# Altium footprint library USB307630A.PcbLib: 1 footprints
Each footprint in its own frame and in the unit in brackets; x right, y up, seen from the top. Pads: shape width x height; smd on the part's side, far side on the other; paste and mask are expansions set on the pad; w line width, h text height; cw(c..) or ccw(c..) is an arc to the next point about the centre after c.
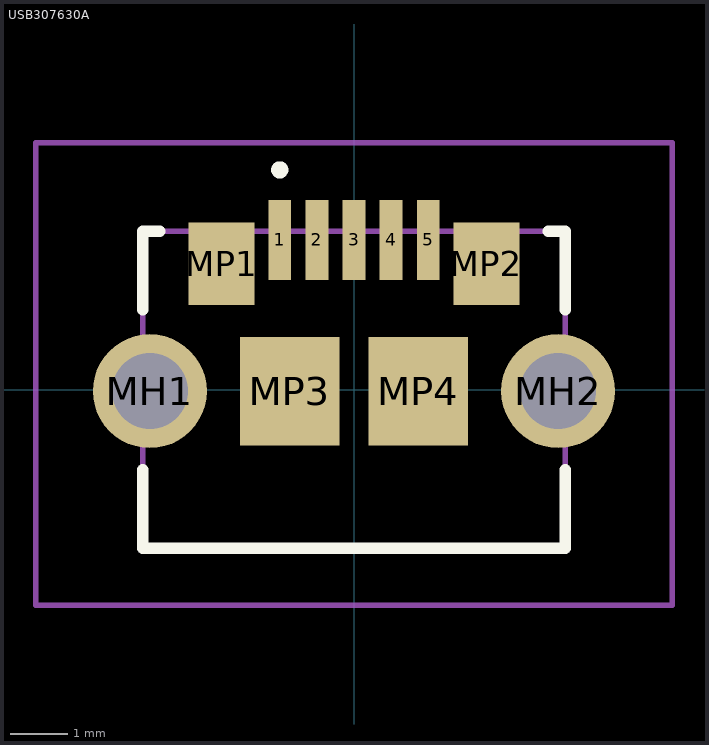
[diagram p0: the footprint, top view; thin cyan lines are the x and y axes]

## USB307630A [mm]
pads (11):
  rect 0.4x1.4 smd: 1(-1.3,2.625) 2(-0.65,2.625) 3(0,2.625) 4(0.65,2.625) 5(1.3,2.625)
  round 1.995 hole 1.33: MH1(-3.575,-0.025) MH2(3.575,-0.025)
  rect 1.15x1.45 smd: MP1(-2.32,2.205) MP2(2.32,2.205)
  rect 1.75x1.9 smd: MP3(-1.125,-0.025) MP4(1.125,-0.025)
Top Overlay:
  lines w0.2: -3.7,-1.4 -3.7,-2.775 3.7,-2.775 3.7,-1.4 ; -3.7,1.4 -3.7,2.775 -3.4,2.775 ; 3.4,2.775 3.7,2.775 3.7,1.4 ; -1.3,3.8 cw(c-1.3,3.85) -1.3,3.9 ; -1.3,3.8 -1.3,3.8 ; -1.3,3.8 ccw(c-1.3,3.85) -1.3,3.9 ; -1.3,3.8 -1.3,3.9 ; -1.3,3.9 -1.3,3.9
Mechanical 15:
  lines w0.1: -3.7,-2.775 3.7,-2.775 3.7,2.775 -3.7,2.775 -3.7,-2.775
Mechanical 20:
  lines w0.1: -5.572,-3.775 5.572,-3.775 5.572,4.325 -5.572,4.325 -5.572,-3.775